# Altium schematic symbol library MODULES.SchLib: 2 symbols
Pins are listed as number, name and electrical type; pins without a type are passive.

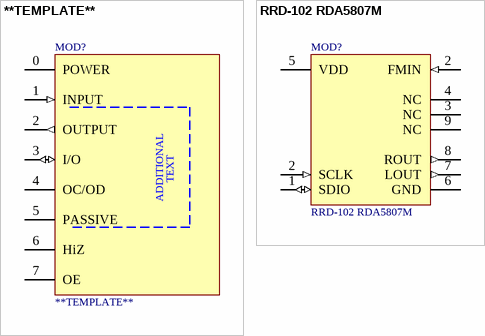
[diagram p0: symbols **TEMPLATE** to RRD-102 RDA5807M]

## **TEMPLATE**
designator MOD?
PLEASE COPY TO CREATE NEW COMPONENT; Function: *; Mounting Type: *; Manufacturer 1: *; Part Number 1: *; Manufacturer 2: *; Part Number 2: *
pins: 0 POWER (power), 1 INPUT (in), 2 OUTPUT (out), 3 I/O (io), 4 OC/OD (oc), 5 PASSIVE (oc), 6 HiZ (hiz), 7 OE (oe)
text: ADDITIONAL; TEXT

## RRD-102 RDA5807M
designator MOD?
FM Radio Module RDA5807M I2C Stereo Receiver; Manufacturer 1: Aliexpress; Function: SDR FM Radio I2C PCB Module; Mounting Type: SMT; Part Number 1: RRD-102; Manufacturer 2: Kamami; Part Number 2: 1192447
footprint RRD-102 RDA5807M (PCB Module SDR FM Radio I2C)
pins: 1 SDIO (io), 2 FMIN (in), 2 SCLK (in), 3 NC, 4 NC, 5 VDD (power), 6 GND (power), 7 LOUT (out), 8 ROUT (out), 9 NC